# Altium integrated library Resistors.IntLib: 4954 symbols (part 32 of 32)
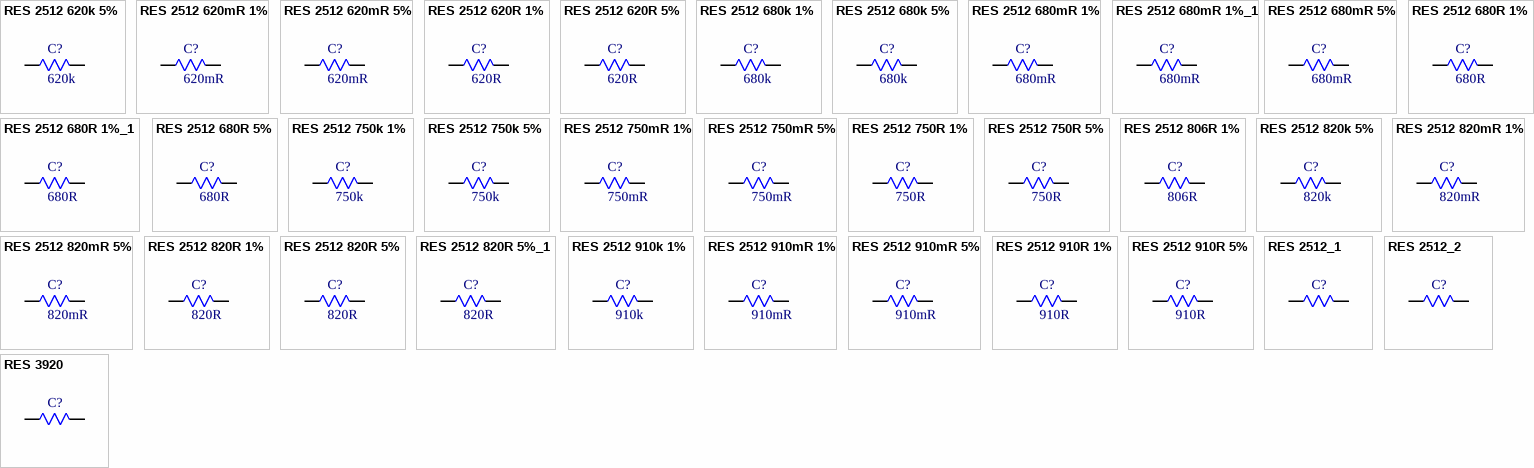
[diagram p154: symbols RES 2512 620k 5% to RES 3920]

## RES 2512 820k 5%
designator C?, comment 820k
820kR 5% 1W 2512 Thick Film Resistor; Manufacturer: FOJAN; Manufacturer Part Number: FRC2512J824 TS; Voltage Rating: 200V; Supplier: LCSC; Supplier Part Number: C2934132; Resistance: 820k; Tolerance: 5%; Power: 1W
footprint RES SMD 2512
pins: 1, 2

## RES 2512 820mR 1%
designator C?, comment 820mR
820mR 1% 1W 2512 Thick Film Resistor; Manufacturer: FOJAN; Manufacturer Part Number: FRL2512FR820TS; Voltage Rating: 500V; Supplier: LCSC; Supplier Part Number: C2960726; Resistance: 820mR; Tolerance: 1%; Power: 1W
footprint RES SMD 2512
pins: 1, 2

## RES 2512 820mR 5%
designator C?, comment 820mR
820mR 5% 1W 2512 Thick Film Resistor; Manufacturer: FOJAN; Manufacturer Part Number: FRL2512JR820TS; Voltage Rating: 500V; Supplier: LCSC; Supplier Part Number: C2934386; Resistance: 820mR; Tolerance: 5%; Power: 1W
footprint RES SMD 2512
pins: 1, 2

## RES 2512 820R 1%
designator C?, comment 820R
1W 820R 200V Thick Film Resistor 100ppm/â„ƒ 1% 2512 Chip Resistor - Surface Mount RoHS; Manufacturer: FOJAN; Manufacturer Part Number: FRC2512F8200TS; Supplier: LCSC; Supplier Part Number: C2999541; Resistance: 820R; Tolerance: 1%; Voltage Rating: 200V; Power: 1W
footprint RES SMD 2512
pins: 1, 2

## RES 2512 820R 5%
designator C?, comment 820R
820R 2W 200V Thick Film Resistor 5% 2512 Chip Resistor - Surface Mount RoHS; Manufacturer: FOJAN; Manufacturer Part Number: FRP2512J821 TS; Supplier: LCSC; Supplier Part Number: C52033502; Resistance: 820R; Tolerance: 5%; Voltage Rating: 200V; Power: 2W
footprint RES SMD 2512
pins: 1, 2

## RES 2512 820R 5%_1
designator C?, comment 820R
820R 1W 200V Thick Film Resistor 100ppm/â„ƒ 5% 2512 Chip Resistor - Surface Mount RoHS; Manufacturer: FOJAN; Manufacturer Part Number: FRC2512J821 TS; Supplier: LCSC; Supplier Part Number: C2934131; Resistance: 820R; Tolerance: 5%; Voltage Rating: 200V; Power: 1W
footprint RES SMD 2512
pins: 1, 2

## RES 2512 910k 1%
designator C?, comment 910k
910kR 1% 1W 2512 Thick Film Resistor; Manufacturer: FOJAN; Manufacturer Part Number: FRC2512F9103TS; Voltage Rating: 200V; Supplier: LCSC; Supplier Part Number: C3013326; Resistance: 910k; Tolerance: 1%; Power: 1W
footprint RES SMD 2512
pins: 1, 2

## RES 2512 910mR 1%
designator C?, comment 910mR
910mR 1W Thick Film Resistor 1% 200ppm/â„ƒ 2512 Chip Resistor - Surface Mount RoHS; Manufacturer: FOJAN; Manufacturer Part Number: FRL2512FR910TS; Supplier: LCSC; Supplier Part Number: C42372211; Resistance: 910mR; Tolerance: 1%; Power: 1W
footprint RES SMD 2512
pins: 1, 2

## RES 2512 910mR 5%
designator C?, comment 910mR
1W 910mR Thick Film Resistor 200ppm/â„ƒ 5% 2512 Chip Resistor - Surface Mount RoHS; Manufacturer: FOJAN; Manufacturer Part Number: FRL2512JR910TS; Supplier: LCSC; Supplier Part Number: C7467378; Resistance: 910mR; Tolerance: 5%; Power: 1W
footprint RES SMD 2512
pins: 1, 2

## RES 2512 910R 1%
designator C?, comment 910R
1W 910R 200V Thick Film Resistor 100ppm/â„ƒ 1% 2512 Chip Resistor - Surface Mount RoHS; Manufacturer: FOJAN; Manufacturer Part Number: FRC2512F9100TS; Supplier: LCSC; Supplier Part Number: C5154005; Resistance: 910R; Tolerance: 1%; Voltage Rating: 200V; Power: 1W
footprint RES SMD 2512
pins: 1, 2

## RES 2512 910R 5%
designator C?, comment 910R
1W 910R 200V Thick Film Resistor 100ppm/â„ƒ 5% 2512 Chip Resistor - Surface Mount RoHS; Manufacturer: FOJAN; Manufacturer Part Number: FRC2512J911 TS; Supplier: LCSC; Supplier Part Number: C2934134; Resistance: 910R; Tolerance: 5%; Voltage Rating: 200V; Power: 1W
footprint RES SMD 2512
pins: 1, 2

## RES 2512_1
designator C?
2512 Chip Resistor - Surface Mount RoHS; Manufacturer: FOJAN; Manufacturer Part Number: FRM252WFR060TM; Supplier: LCSC; Supplier Part Number: C52175206
footprint RES SMD 2512
pins: 1, 2

## RES 2512_2
designator C?
2512 Chip Resistor - Surface Mount RoHS; Manufacturer: FOJAN; Manufacturer Part Number: FRM252WFR050TM; Supplier: LCSC; Supplier Part Number: C52175205
footprint RES SMD 2512
pins: 1, 2

## RES 3920
designator C?
3920 Chip Resistor - Surface Mount RoHS; Manufacturer: FOJAN; Manufacturer Part Number: FCM39205WF2M50RM; Supplier: LCSC; Supplier Part Number: C52175202
footprint RES SMD 3920
pins: 1, 2